# EAGLE library part QUECTEL_L70 (library GPS)
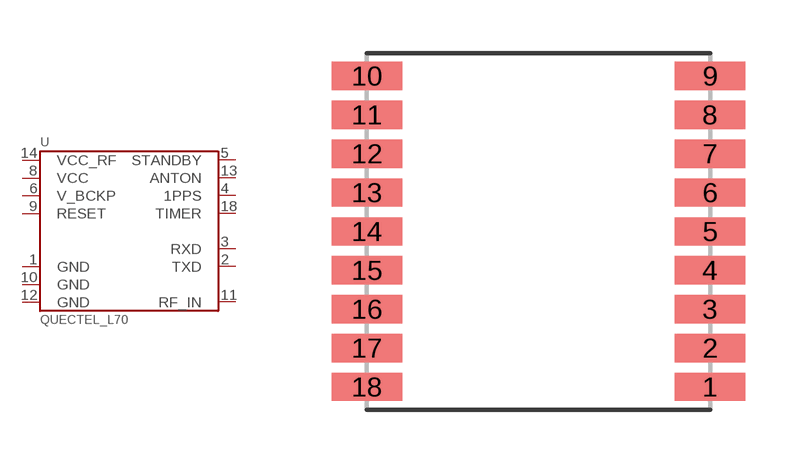
[diagram p0: symbol with the pads of QUECTEL_L70; footprint QUECTEL_L70]

Designator prefix U

## QUECTEL_L70  [QUECTEL_L70]
1  GND  pwr
2  TXD  out
3  RXD  in
4  1PPS  out
5  STANDBY  in
6  V_BCKP  pwr
8  VCC  pwr
9  RESET  in
10  GND  pwr
11  RF_IN  in
12  GND  pwr
13  ANTON  out
14  VCC_RF  pwr
18  TIMER  out

## Footprint QUECTEL_L70 (pad centres in mm)
smd 2 x 0.8: 1 4.85,-4.4; 2 4.85,-3.3; 3 4.85,-2.2; 4 4.85,-1.1; 5 4.85,0; 6 4.85,1.1; 7 4.85,2.2; 8 4.85,3.3; 9 4.85,4.4; 10 -4.85,4.4; 11 -4.85,3.3; 12 -4.85,2.2; 13 -4.85,1.1; 14 -4.85,0; 15 -4.85,-1.1; 16 -4.85,-2.2; 17 -4.85,-3.3; 18 -4.85,-4.4